# Altium footprint library DS_Lib.PcbLib: 69 footprints (part 2 of 5)
Each footprint in its own frame and in the unit in brackets; x right, y up, seen from the top. Pads: shape width x height; smd on the part's side, far side on the other; paste and mask are expansions set on the pad; w line width, h text height; cw(c..) or ccw(c..) is an arc to the next point about the centre after c.
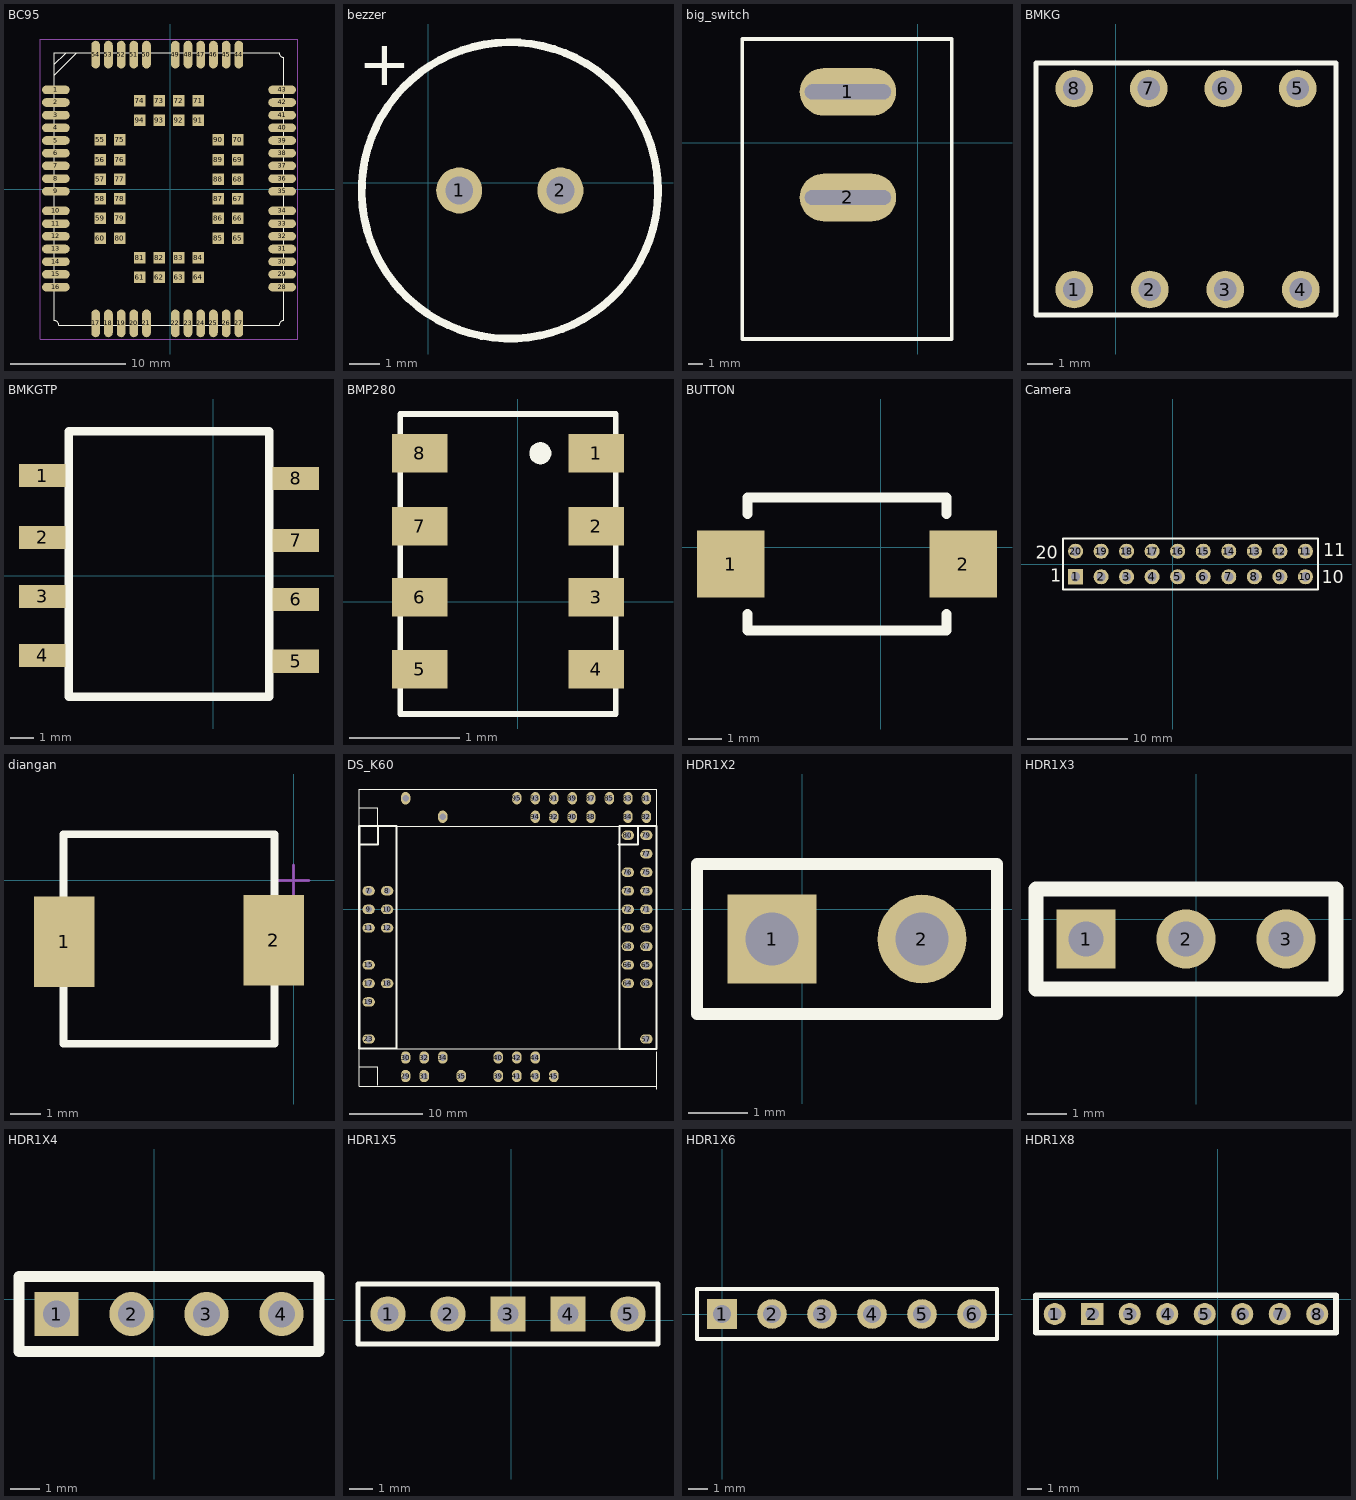
[diagram p1: the footprints below, top view; thin cyan lines are the x and y axes]

## BC95 [mm]
pads (94):
  oval 2.4x0.75 smd: 1(-9.927,8.6) 2(-9.927,7.5) 3(-9.927,6.4) 4(-9.927,5.3) 5(-9.927,4.2) 6(-9.927,3.1) 7(-9.927,2) 8(-9.927,0.9) 9(-9.927,-0.2) 10(-9.927,-1.9) 11(-9.927,-3) 12(-9.927,-4.1) 13(-9.927,-5.2) 14(-9.927,-6.3) 15(-9.927,-7.4) 16(-9.927,-8.5) 28(9.673,-8.5) 29(9.673,-7.4) 30(9.673,-6.3) 31(9.673,-5.2) 32(9.673,-4.1) 33(9.673,-3) 34(9.673,-1.9) 35(9.673,-0.2) 36(9.673,0.9) 37(9.673,2) 38(9.673,3.1) 39(9.673,4.2) 40(9.673,5.3) 41(9.673,6.4) 42(9.673,7.5) 43(9.673,8.6)
  oval 0.75x2.4 smd: 17(-6.477,-11.65) 18(-5.377,-11.65) 19(-4.277,-11.65) 20(-3.177,-11.65) 21(-2.077,-11.65) 22(0.423,-11.65) 23(1.523,-11.65) 24(2.623,-11.65) 25(3.723,-11.65) 26(4.823,-11.65) 27(5.923,-11.65) 44(5.923,11.65) 45(4.823,11.65) 46(3.723,11.65) 47(2.623,11.65) 48(1.523,11.65) 49(0.423,11.65) 50(-2.077,11.65) 51(-3.177,11.65) 52(-4.277,11.65) 53(-5.377,11.65) 54(-6.477,11.65)
  rect 1x1 smd: 55(-6.077,4.25) 56(-6.077,2.55) 57(-6.077,0.85) 58(-6.077,-0.85) 59(-6.077,-2.55) 60(-6.077,-4.25) 61(-2.677,-7.65) 62(-0.977,-7.65) 63(0.723,-7.65) 64(2.423,-7.65) 65(5.823,-4.25) 66(5.823,-2.55) 67(5.823,-0.85) 68(5.823,0.85) 69(5.823,2.55) 70(5.823,4.25) 71(2.423,7.65) 72(0.723,7.65) 73(-0.977,7.65) 74(-2.677,7.65) 75(-4.377,4.25) 76(-4.377,2.55) 77(-4.377,0.85) 78(-4.377,-0.85) 79(-4.377,-2.55) 80(-4.377,-4.25) 81(-2.677,-5.95) 82(-0.977,-5.95) 83(0.723,-5.95) 84(2.423,-5.95) 85(4.123,-4.25) 86(4.123,-2.55) 87(4.123,-0.85) 88(4.123,0.85) 89(4.123,2.55) 90(4.123,4.25) 91(2.423,5.95) 92(0.723,5.95) 93(-0.977,5.95) 94(-2.677,5.95)
Top Overlay:
  lines w0.1: -10.077,9.851 -8.128,11.8 -9.398,11.8 ; -10.077,10.033 -10.077,11.375 ; -10.077,10.414 -10.077,11.8 ; -10.058,10.82 -9.093,11.786 ; -8.564,11.8 -10.077,11.8 ; -10.077,11.8 -10.077,-11.4 cw(c-10.077,-11.8) -9.677,-11.8 9.423,-11.8 cw(c9.823,-11.8) 9.823,-11.4 9.823,11.4 cw(c9.823,11.8) 9.423,11.8 -10.077,11.8
Mechanical 1:
  lines w0.01: -11.277,-13 11.023,-13 11.023,13 -11.277,13 -11.277,-13

## bezzer [mm]
pads (2):
  round 1.5 hole 0.9: 1(1.016,-0.254) 2(4.318,-0.254)
Top Overlay:
  lines w0.254: 7.499,-0.349 cw(c2.667,-0.254) 7.5,-0.254
  text "+" at -2.286,3.175 h1.5

## big_switch [mm]
pads (2):
  oval 6.5x3.2 hole 1 slot 5.8 at 0 deg: 1(-4.699,3.429) 2(-4.699,-3.683)
Top Overlay:
  lines w0.254: -11.811,-13.208 -11.811,6.985 2.286,6.985 2.286,-13.208 -11.811,-13.208

## BMKG [mm]
pads (8):
  round 1.5 hole 0.9: 1(-1.651,8.636) 2(1.355,8.636) 3(4.36,8.636) 4(7.366,8.636) 5(7.239,16.637) 6(4.276,16.637) 7(1.312,16.637) 8(-1.651,16.637)
Top Overlay:
  lines w0.2: -3.175,7.62 -3.175,17.653 8.763,17.653 8.763,7.62 -3.175,7.62

## BMKGTP [mm]
pads (8):
  rect 2x1 smd: 1(-7.366,4.318) 2(-7.366,1.651) 3(-7.366,-0.889) 4(-7.366,-3.429) 5(3.556,-3.683) 6(3.556,-1.016) 7(3.556,1.524) 8(3.556,4.191)
Top Overlay:
  lines w0.381: -6.223,-5.207 -6.223,6.223 2.159,6.223 2.413,6.223 2.413,5.969 2.413,-5.207 -6.223,-5.207

## BMP280 [mm]
pads (8):
  rect 0.5x0.35 smd: 1(0.711,1.346) 2(0.711,0.686) 3(0.711,0.042) 4(0.711,-0.61) 5(-0.889,-0.61) 6(-0.889,0.042) 7(-0.889,0.686) 8(-0.889,1.346)
Top Overlay:
  circle w0.1: c0.204,1.346 r0.05
  lines w0.05: -1.067,-1.016 0.889,-1.016 0.889,1.702 -1.067,1.702 -1.067,-1.016

## BUTTON [mil]
pads (2):
  rect 80x80 smd: 1(-177.8,-20) 2(97.8,-20)
Top Overlay:
  lines w12: -158.11,-79.06 -158.11,-98.74 78.11,-98.74 78.11,-79.06 ; -158.11,39.06 -158.11,58.74 78.11,58.74 78.11,39.06

## Camera [mm]
pads (20):
  rect 1.5x1.5 hole 0.9: 1(-9.652,-1.27)
  round 1.5 hole 0.9: 2(-7.112,-1.27) 3(-4.572,-1.27) 4(-2.032,-1.27) 5(0.508,-1.27) 6(3.048,-1.27) 7(5.588,-1.27) 8(8.128,-1.27) 9(10.668,-1.27) 10(13.208,-1.27) 11(13.208,1.27) 12(10.668,1.27) 13(8.128,1.27) 14(5.588,1.27) 15(3.048,1.27) 16(0.508,1.27) 17(-2.032,1.27) 18(-4.572,1.27) 19(-7.112,1.27) 20(-9.652,1.27)
Top Overlay:
  lines w0.2: -10.922,-2.54 -10.922,2.54 -9.017,2.54 14.478,2.54 14.478,-2.54 -9.017,-2.54 -10.922,-2.54
  text "20" at -13.589,0.508 h1.27
  text "1" at -12.192,-1.778 h1.27
  text "10" at 14.859,-1.905 h1.27
  text "11" at 14.986,0.762 h1.27

## diangan [mm]
pads (2):
  rect 2x3 smd: 1(-7.595,-2.032) 2(-0.66,-1.981)
Top Overlay:
  lines w0.254: -7.62,-3.048 -7.62,-5.41 -0.635,-5.41 -0.635,-3.048 ; -7.62,-0.762 -7.62,1.524 -0.635,1.524 -0.635,-0.842
Mechanical 15:
  lines w0.1: -0.5,0 0.5,0 ; 0,-0.5 0,0.5

## DS_K60 [mm]
pads (58):
  oval 1.7x1.3 / inner round 1.524 / far side round 1.524 hole 0.9: 7(-42.291,2.54) 8(-39.751,2.54) 9(-42.291,0) 10(-39.751,0) 11(-42.291,-2.54) 12(-39.751,-2.54) 15(-42.291,-7.62) 17(-42.291,-10.16) 18(-39.751,-10.16) 19(-42.291,-12.7) 23(-42.291,-17.78) 57(-4.191,-17.78) 63(-4.191,-10.16) 64(-6.731,-10.16) 65(-4.191,-7.62) 66(-6.731,-7.62) 67(-4.191,-5.08) 68(-6.731,-5.08) 69(-4.191,-2.54) 70(-6.731,-2.54) 71(-4.191,0) 72(-6.731,0) 73(-4.191,2.54) 74(-6.731,2.54) 75(-4.191,5.08) 76(-6.731,5.08) 77(-4.191,7.62) 79(-4.191,10.16) 80(-6.731,10.16)
  oval 1.3x1.7 / inner round 1.524 / far side round 1.524 hole 0.9: 29(-37.211,-22.86) 30(-37.211,-20.32) 31(-34.671,-22.86) 32(-34.671,-20.32) 34(-32.131,-20.32) 35(-29.591,-22.86) 39(-24.511,-22.86) 40(-24.511,-20.32) 41(-21.971,-22.86) 42(-21.971,-20.32) 43(-19.431,-22.86) 44(-19.431,-20.32) 45(-16.891,-22.86) 81(-4.191,15.24) 82(-4.191,12.7) 83(-6.731,15.24) 84(-6.731,12.7) 85(-9.271,15.24) 87(-11.811,15.24) 88(-11.811,12.7) 89(-14.351,15.24) 90(-14.351,12.7) 91(-16.891,15.24) 92(-16.891,12.7) 93(-19.431,15.24) 94(-19.431,12.7) 95(-21.971,15.24) 104(-32.131,12.7) 107(-37.211,15.24)
Top Overlay:
  lines w0.15: -43.603,-24.288 -43.603,-19.208 ; -43.564,-24.237 -2.797,-24.237 ; -43.561,-21.59 -41.021,-21.59 -41.021,-24.13 ; -43.561,-19.146 -2.794,-19.146 ; -43.561,13.97 -41.021,13.97 -41.021,11.43 ; -2.794,-20.021 -2.743,-20.021 ; -2.794,-19.662 -2.743,-19.662 ; -2.743,-24.638 -2.743,-19.558 ; -43.561,11.43 -43.561,16.51 -2.794,16.51 -2.743,16.51 -2.743,11.43 -2.794,11.43 -43.561,11.43
  lines w0.305: -43.561,-19.081 -38.481,-19.081 ; -43.561,-19.05 -43.561,11.43 -38.481,11.43 -38.481,-19.05 ; -43.561,8.89 -41.021,8.89 -41.021,11.43 ; -8.001,8.89 -5.461,8.89 ; -7.874,-19.154 -2.794,-19.154 ; -7.874,-19.05 -7.874,11.43 -2.794,11.43 -2.794,-19.05 ; -5.334,8.89 -5.334,11.43

## HDR1X2 [mm]
pads (2):
  rect 1.5x1.5 hole 0.9: 1(-0.508,-0.508)
  round 1.5 hole 0.9: 2(2.032,-0.508)
Top Overlay:
  lines w0.2: -1.778,-1.778 -1.778,0.762 3.302,0.762 3.302,-1.778 -1.778,-1.778

## HDR1X3 [mm]
pads (3):
  rect 1.5x1.5 hole 0.9: 1(-2.794,-0.508)
  round 1.5 hole 0.9: 2(-0.254,-0.508) 3(2.286,-0.508)
Top Overlay:
  lines w0.381: -4.064,-1.778 -4.064,0.762 3.556,0.762 3.556,-1.778 -4.064,-1.778

## HDR1X4 [mm]
pads (4):
  rect 1.5x1.5 hole 0.9: 1(-3.302,-0.508)
  round 1.5 hole 0.9: 2(-0.762,-0.508) 3(1.778,-0.508) 4(4.318,-0.508)
Top Overlay:
  lines w0.381: -4.572,-1.778 5.588,-1.778 5.588,0.762 -4.572,0.762 -4.572,-1.778

## HDR1X5 [mm]
pads (5):
  round 1.5 hole 0.9: 1(-5.207,0.254) 2(-2.667,0.254) 5(4.953,0.254)
  rect 1.5x1.5 hole 0.9: 3(-0.127,0.254) 4(2.413,0.254)
Top Overlay:
  lines w0.2: -6.477,-1.016 6.223,-1.016 6.223,1.524 -6.477,1.524 -6.477,-1.016

## HDR1X6 [mm] "Connector; Header; 6 Position"
pads (6):
  rect 1.5x1.5 hole 0.9: 1(0,0)
  round 1.5 hole 0.9: 2(2.54,0) 3(5.08,0) 4(7.62,0) 5(10.16,0) 6(12.7,0)
Top Overlay:
  lines w0.2: -1.27,-1.27 -1.27,1.27 13.97,1.27 13.97,-1.27 -1.27,-1.27

## HDR1X8 [mm]
pads (8):
  round 1.5 hole 0.9: 1(-11.049,-1.016) 3(-5.969,-1.016) 4(-3.429,-1.016) 5(-0.889,-1.016) 6(1.651,-1.016) 7(4.191,-1.016) 8(6.731,-1.016)
  rect 1.5x1.5 hole 0.9: 2(-8.509,-1.016)
Top Overlay:
  lines w0.381: -12.319,-2.286 8.001,-2.286 8.001,0.254 -12.319,0.254 -12.319,-2.286